# EAGLE library part MULTICOMP-MC9B232 (library eq_Control_Board)
A shrouded lock header for LCD screen interfacing. 2.54mm pitch.
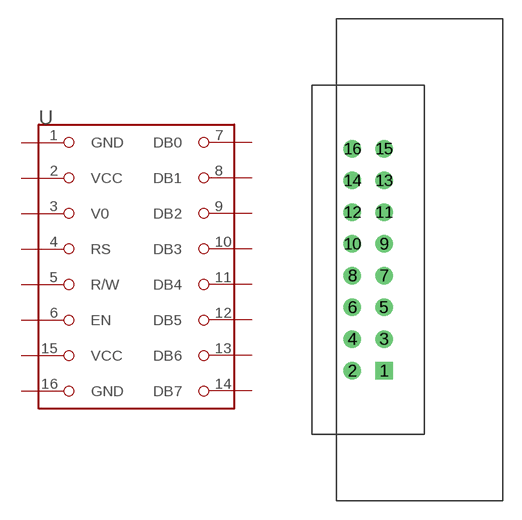
[diagram p1: symbol with the pads of MULTICOMP-MC9B232; footprint MULTICOMP-MC9B232]

Designator prefix -

## MULTICOMP-MC9B232  [MULTICOMP-MC9B232]
1  GND
2  VCC
3  V0
4  RS
5  R/W
6  EN
7  DB0
8  DB1
9  DB2
10  DB3
11  DB4
12  DB5
13  DB6
14  DB7
15  VCC
16  GND

## Footprint MULTICOMP-MC9B232 (pad centres in mm)
drill 0.9 pad 1.4 square: 1 1.27,-8.89
drill 0.9 pad 1.4: 2 -1.27,-8.89; 3 1.27,-6.35; 4 -1.27,-6.35; 5 1.27,-3.81; 6 -1.27,-3.81; 7 1.27,-1.27; 8 -1.27,-1.27; 9 1.27,1.27; 10 -1.27,1.27; 11 1.27,3.81; 12 -1.27,3.81; 13 1.27,6.35; 14 -1.27,6.35; 15 1.27,8.89; 16 -1.27,8.89